# EAGLE library part DS555 (library ds555)
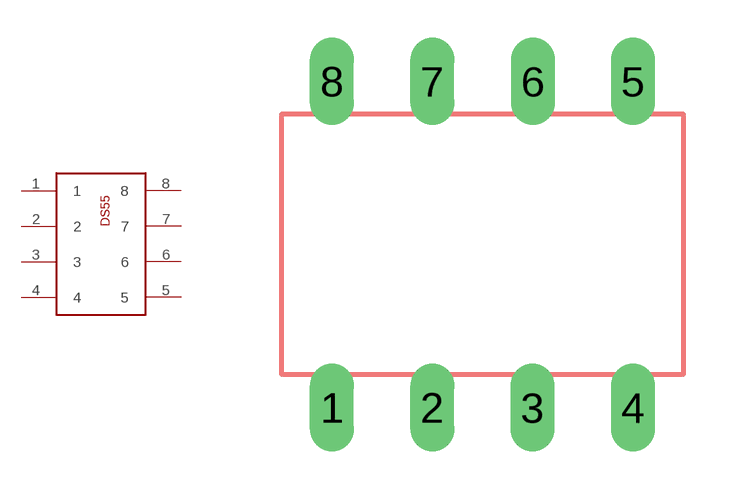
[diagram p0: symbol with the pads of NAND_GATE; footprint NAND_GATE]

Designator prefix -

## DS555DS555  [NAND_GATE]
1  1
2  2
3  3
4  4
5  5
6  6
7  7
8  8

## Footprint NAND_GATE (pad centres in mm)
drill 0.6 long: 1 1.27,-0.83; 2 3.81,-0.83; 3 6.35,-0.83; 4 8.89,-0.83; 5 8.89,7.43; 6 6.36,7.43; 7 3.81,7.43; 8 1.27,7.43